# Altium schematic symbol library Interface_USB.SchLib: 96 symbols (part 2 of 2)
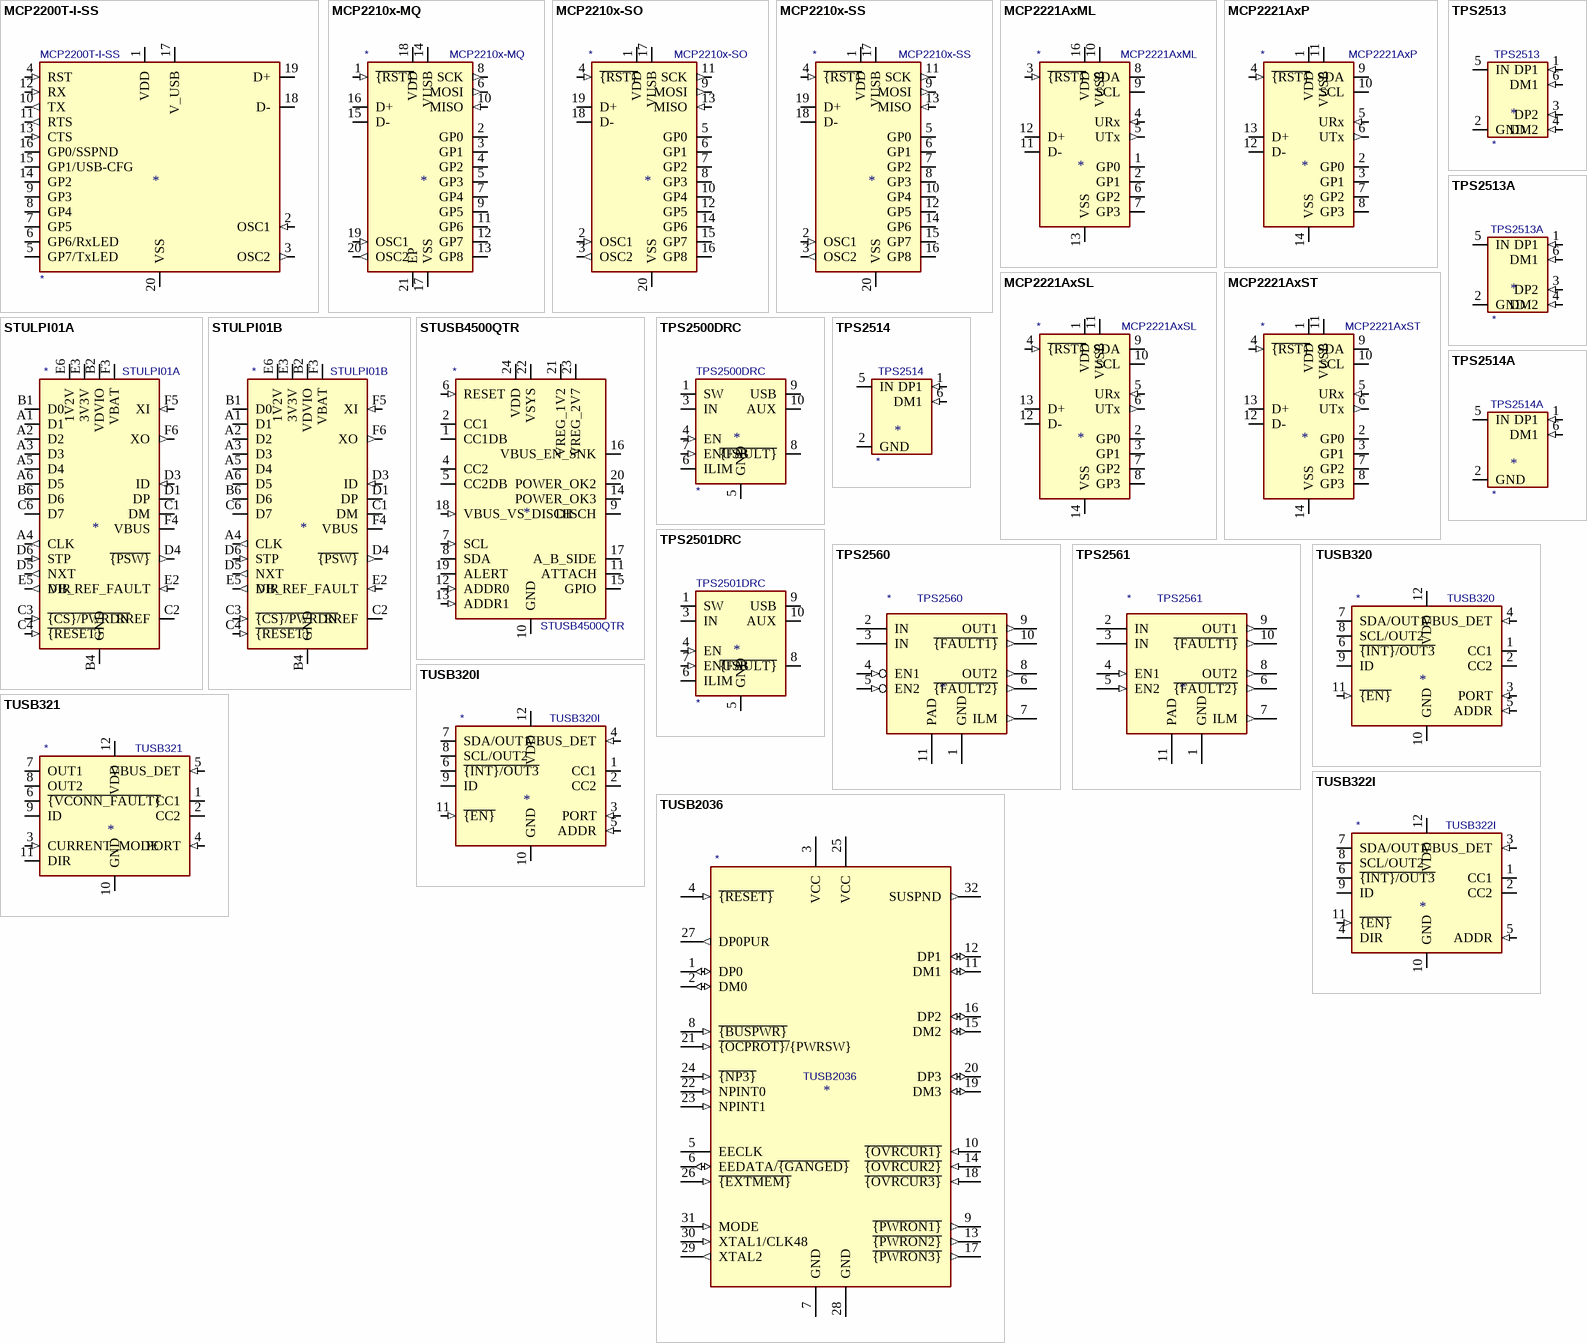
[diagram p5: symbols MCP2200T-I-SS to TUSB2036]

## MCP2221AxSL
designator *  value MCP2221AxSL
ki_keywords: USB I2C UART Converter Bridge; ki_description: USB to I2C/UART Protocol Converter with GPIO, SOIC-14; ki_fp_filters: SOIC*3.9x8.7mm*P1.27mm*; Footprint: Package_SO:SOIC-14_3.9x8.7mm_P1.27mm; Supplier: http://ww1.microchip.com/downloads/en/DeviceDoc/20005565B.pdf
footprint SOIC-14_3.9x8.7mm_P1.27mm
pins: 1 VDD (power), 2 GP0 (io), 3 GP1 (io), 4 ~{{RST}} (in), 5 URx (in), 6 UTx (out), 7 GP2 (io), 8 GP3 (io), 9 SDA (io), 10 SCL (io), 11 VUSB, 12 D- (io), 13 D+ (io), 14 VSS (power)

## MCP2221AxST
designator *  value MCP2221AxST
ki_keywords: USB I2C UART Converter Bridge; ki_description: USB to I2C/UART Protocol Converter with GPIO, TSSOP-14; ki_fp_filters: TSSOP*4.4x5mm*P0.65mm*; Footprint: Package_SO:TSSOP-14_4.4x5mm_P0.65mm; Supplier: http://ww1.microchip.com/downloads/en/DeviceDoc/20005565B.pdf
footprint TSSOP-14_4.4x5mm_P0.65mm
pins: 1 VDD (power), 2 GP0 (io), 3 GP1 (io), 4 ~{{RST}} (in), 5 URx (in), 6 UTx (out), 7 GP2 (io), 8 GP3 (io), 9 SDA (io), 10 SCL (io), 11 VUSB, 12 D- (io), 13 D+ (io), 14 VSS (power)

## STULPI01A
designator *  value STULPI01A
ki_keywords: USB OTG HS PHY ULPI Interface; ki_description: High-speed USB On-The-Go ULPI transceiver; ki_fp_filters: ST*uTFBGA*3.6x3.6mm*Layout6x6*P0.5mm*; Footprint: Package_BGA:ST_uTFBGA-36_3.6x3.6mm_Layout6x6_P0.5mm; Supplier: https://www.st.com/resource/en/datasheet/stulpi01a.pdf
footprint ST_uTFBGA-36_3.6x3.6mm_Layout6x6_P0.5mm
pins: A1 D1 (io), A2 D2 (io), A3 D3 (io), A4 CLK (out), A5 D4 (io), A6 D5 (io), B1 D0 (io), B2 VDVIO (power), B3 VDVIO hidden, B4 GND (power), B5 VDVIO hidden, B6 D6 (io), C1 DM (io), C2 RREF, C3 ~{{CS}/PWRDN} (in), C4 ~{{RESET}} (in), C5 GND hidden, C6 D7 (io), D1 DP (io), D2 GND hidden, D3 ID (in), D4 ~{{PSW}} (out), D5 NXT (out), D6 STP (in), E1 GND hidden, E2 VB_REF_FAULT (in), E3 3V3V, E4 GND hidden, E5 DIR (out), E6 1V2V, F1 NC (in) hidden, F2 NC (in) hidden, F3 VBAT (power), F4 VBUS (io), F5 XI (in), F6 XO (out)

## STULPI01B
designator *  value STULPI01B
ki_keywords: USB OTG HS PHY ULPI Interface; ki_description: High-speed USB On-The-Go ULPI transceiver; ki_fp_filters: ST*uTFBGA*3.6x3.6mm*Layout6x6*P0.5mm*; Footprint: Package_BGA:ST_uTFBGA-36_3.6x3.6mm_Layout6x6_P0.5mm; Supplier: https://www.st.com/resource/en/datasheet/stulpi01b.pdf
footprint ST_uTFBGA-36_3.6x3.6mm_Layout6x6_P0.5mm
pins: A1 D1 (io), A2 D2 (io), A3 D3 (io), A4 CLK (out), A5 D4 (io), A6 D5 (io), B1 D0 (io), B2 VDVIO (power), B3 VDVIO hidden, B4 GND (power), B5 VDVIO hidden, B6 D6 (io), C1 DM (io), C2 RREF, C3 ~{{CS}/PWRDN} (in), C4 ~{{RESET}} (in), C5 GND hidden, C6 D7 (io), D1 DP (io), D2 GND hidden, D3 ID (in), D4 ~{{PSW}} (out), D5 NXT (out), D6 STP (in), E1 GND hidden, E2 VB_REF_FAULT (in), E3 3V3V, E4 GND hidden, E5 DIR (out), E6 1V2V, F1 NC (in) hidden, F2 NC (in) hidden, F3 VBAT (power), F4 VBUS (io), F5 XI (in), F6 XO (out)

## STUSB4500QTR
designator *  value STUSB4500QTR
ki_keywords: USB PD Type C Sink; ki_description: Stand-alone USB PD controller (with sink Auto-run mode), QFN-24; ki_fp_filters: QFN*4x4mm*P0.5mm*; Footprint: Package_DFN_QFN:QFN-24-1EP_4x4mm_P0.5mm_EP2.7x2.7mm; Supplier: https://www.st.com/resource/en/datasheet/stusb4500.pdf
footprint QFN-24-1EP_4x4mm_P0.5mm_EP2.7x2.7mm
pins: 1 CC1DB (io), 2 CC1 (io), 3 NC (in) hidden, 4 CC2 (io), 5 CC2DB (io), 6 RESET (in), 7 SCL (in), 8 SDA (io), 9 DISCH (io), 10 GND (power), 11 ATTACH (oc), 12 ADDR0 (in), 13 ADDR1 (in), 14 POWER_OK3 (oc), 15 GPIO (oc), 16 VBUS_EN_SNK (oc), 17 A_B_SIDE (oc), 18 VBUS_VS_DISCH (in), 19 ALERT (oc), 20 POWER_OK2 (oc), 21 VREG_1V2 (power), 22 VSYS (power), 23 VREG_2V7 (power), 24 VDD (power), 25 GND hidden

## TPS2500DRC
designator *  value TPS2500DRC
ki_keywords: USB switch boost; ki_description: Integrated USB power Switch with Boost Converter, High-Efficiency Eco-mode Control Scheme, Texas S-PVSON-10; ki_fp_filters: Texas*S*PVSON*N10*; Footprint: Package_SON:Texas_S-PVSON-N10; Supplier: http://www.ti.com/lit/ds/symlink/tps2500.pdf
footprint Texas_S-PVSON-N10
pins: 1 SW (power), 2 GND hidden, 3 IN (power), 4 EN (in), 5 GND (power), 6 ILIM, 7 ENUSB (in), 8 ~{{FAULT}} (oc), 9 USB (power), 10 AUX (power), 11 GND hidden

## TPS2501DRC
designator *  value TPS2501DRC
ki_keywords: USB switch boost; ki_description: Integrated USB power Switch with Boost Converter, Constant Frequency, Texas S-PVSON-10; ki_fp_filters: Texas*S*PVSON*N10*; Footprint: Package_SON:Texas_S-PVSON-N10; Supplier: http://www.ti.com/lit/ds/symlink/tps2500.pdf
footprint Texas_S-PVSON-N10
pins: 1 SW (power), 2 GND hidden, 3 IN (power), 4 EN (in), 5 GND (power), 6 ILIM, 7 ENUSB (in), 8 ~{{FAULT}} (oc), 9 USB (power), 10 AUX (power), 11 GND hidden

## TPS2513
designator *  value TPS2513
ki_keywords: USB Charge; ki_description: USB Dedicated Charging Port Controller; ki_fp_filters: SOT?23*; Footprint: Package_TO_SOT_SMD:SOT-23-6; Supplier: http://www.ti.com/lit/ds/symlink/tps2513.pdf
footprint SOT-23-6
pins: 1 DP1 (in), 2 GND (power), 3 DP2 (in), 4 DM2 (in), 5 IN (power), 6 DM1 (in)

## TPS2513A
designator *  value TPS2513A
ki_keywords: USB Charge; ki_description: USB Dedicated Charging Port Controller; ki_fp_filters: SOT?23*; Footprint: Package_TO_SOT_SMD:SOT-23-6; Supplier: http://www.ti.com/lit/ds/symlink/tps2513.pdf
footprint SOT-23-6
pins: 1 DP1 (in), 2 GND (power), 3 DP2 (in), 4 DM2 (in), 5 IN (power), 6 DM1 (in)

## TPS2514
designator *  value TPS2514
ki_keywords: USB Charge; ki_description: USB Dedicated Charging Port Controller; ki_fp_filters: SOT?23*; Footprint: Package_TO_SOT_SMD:SOT-23-6; Supplier: http://www.ti.com/lit/ds/symlink/tps2513.pdf
footprint SOT-23-6
pins: 1 DP1 (in), 2 GND (power), 3 NC (in) hidden, 4 NC (in) hidden, 5 IN (power), 6 DM1 (in)

## TPS2514A
designator *  value TPS2514A
ki_keywords: USB Charge; ki_description: USB Dedicated Charging Port Controller; ki_fp_filters: SOT?23*; Footprint: Package_TO_SOT_SMD:SOT-23-6; Supplier: http://www.ti.com/lit/ds/symlink/tps2513.pdf
footprint SOT-23-6
pins: 1 DP1 (in), 2 GND (power), 3 NC (in) hidden, 4 NC (in) hidden, 5 IN (power), 6 DM1 (in)

## TPS2560
designator *  value TPS2560
ki_keywords: power switche current limited usb port; ki_description: Dual channel precision adjustable current-limited power switches; ki_fp_filters: VSON*3x3mm*P0.5mm*; Footprint: Package_SON:VSON-10-1EP_3x3mm_P0.5mm_EP1.65x2.4mm_ThermalVias; Supplier: http://www.ti.com/lit/ds/symlink/tps2560.pdf
footprint VSON-10-1EP_3x3mm_P0.5mm_EP1.65x2.4mm_ThermalVias
pins: 1 GND (power), 2 IN (power), 3 IN (power), 4 EN1 (in), 5 EN2 (in), 6 ~{{FAULT2}} (out), 7 ILM (out), 8 OUT2 (out), 9 OUT1 (out), 10 ~{{FAULT1}} (out), 11 PAD (power)

## TPS2561
designator *  value TPS2561
ki_keywords: power switche current limited usb port; ki_description: Dual channel precision adjustable current-limited power switches; ki_fp_filters: VSON*3x3mm*P0.5mm*; Footprint: Package_SON:VSON-10-1EP_3x3mm_P0.5mm_EP1.65x2.4mm_ThermalVias; Supplier: http://www.ti.com/lit/ds/symlink/tps2561.pdf
footprint VSON-10-1EP_3x3mm_P0.5mm_EP1.65x2.4mm_ThermalVias
pins: 1 GND (power), 2 IN (power), 3 IN (power), 4 EN1 (in), 5 EN2 (in), 6 ~{{FAULT2}} (out), 7 ILM (out), 8 OUT2 (out), 9 OUT1 (out), 10 ~{{FAULT1}} (out), 11 PAD (power)

## TUSB320
designator *  value TUSB320
ki_keywords: USB PD CC; ki_description: USB Type-C Configuration Channel Logic and Port Control, X2QFN-12; ki_fp_filters: Texas?X2QFN*1.6x1.6mm*P0.4mm*; Footprint: Package_DFN_QFN:Texas_X2QFN-12_1.6x1.6mm_P0.4mm; Supplier: http://www.ti.com/lit/ds/symlink/tusb320.pdf
footprint Texas_X2QFN-12_1.6x1.6mm_P0.4mm
pins: 1 CC1 (io), 2 CC2 (io), 3 PORT (in), 4 VBUS_DET (in), 5 ADDR (in), 6 ~{{INT}/OUT3} (oc), 7 SDA/OUT1 (io), 8 SCL/OUT2 (io), 9 ID (oc), 10 GND (power), 11 ~{{EN}} (in), 12 VDD (power)

## TUSB320I
designator *  value TUSB320I
ki_keywords: USB PD CC; ki_description: USB Type-C Configuration Channel Logic and Port Control, industrial temperature range, X2QFN-12; ki_fp_filters: Texas?X2QFN*1.6x1.6mm*P0.4mm*; Footprint: Package_DFN_QFN:Texas_X2QFN-12_1.6x1.6mm_P0.4mm; Supplier: http://www.ti.com/lit/ds/symlink/tusb320.pdf
footprint Texas_X2QFN-12_1.6x1.6mm_P0.4mm
pins: 1 CC1 (io), 2 CC2 (io), 3 PORT (in), 4 VBUS_DET (in), 5 ADDR (in), 6 ~{{INT}/OUT3} (oc), 7 SDA/OUT1 (io), 8 SCL/OUT2 (io), 9 ID (oc), 10 GND (power), 11 ~{{EN}} (in), 12 VDD (power)

## TUSB321
designator *  value TUSB321
ki_keywords: USB CC PD VCONN; ki_description: USB Type-C Configuration Channel Logic and Port Control with VCONN, X2QFN-12; ki_fp_filters: Texas?X2QFN*1.6x1.6mm*P0.4mm*; Footprint: Package_DFN_QFN:Texas_X2QFN-12_1.6x1.6mm_P0.4mm; Supplier: http://www.ti.com/lit/ds/symlink/tusb321.pdf
footprint Texas_X2QFN-12_1.6x1.6mm_P0.4mm
pins: 1 CC1 (io), 2 CC2 (io), 3 CURRENT_MODE (in), 4 PORT (in), 5 VBUS_DET (in), 6 ~{{VCONN_FAULT}} (oc), 7 OUT1 (oc), 8 OUT2 (oc), 9 ID (oc), 10 GND (power), 11 DIR (oc), 12 VDD (power)

## TUSB322I
designator *  value TUSB322I
ki_keywords: USB VCONN PD CC; ki_description: USB Type-C Configuration Channel Logic and Port Control with VCONN, X2QFN-12; ki_fp_filters: Texas?X2QFN*1.6x1.6mm*P0.4mm*; Footprint: Package_DFN_QFN:Texas_X2QFN-12_1.6x1.6mm_P0.4mm; Supplier: www.ti.com/lit/ds/symlink/tusb322i.pdf
footprint Texas_X2QFN-12_1.6x1.6mm_P0.4mm
pins: 1 CC1 (io), 2 CC2 (io), 3 VBUS_DET (in), 4 DIR (oc), 5 ADDR (in), 6 ~{{INT}/OUT3} (oc), 7 SDA/OUT1 (io), 8 SCL/OUT2 (io), 9 ID (oc), 10 GND (power), 11 ~{{EN}} (in), 12 VDD (power)

## TUSB2036
designator *  value TUSB2036
ki_keywords: 2-Port, 3-Port, 3.3V, EEPROM, Full Speed, Hub, Texas Instruments, USB1.1; ki_description: 2- or 3-Port USB1.1 HUB with optional serial EEPROM; ki_fp_filters: LQFP*7x7mm*P0.8mm*; Footprint: Package_QFP:LQFP-32_7x7mm_P0.8mm; Supplier: http://www.ti.com/lit/ds/symlink/tusb2036.pdf
footprint LQFP-32_7x7mm_P0.8mm
pins: 1 DP0 (io), 2 DM0 (io), 3 VCC (power), 4 ~{{RESET}} (in), 5 EECLK (hiz), 6 EEDATA/~{{GANGED}} (io), 7 GND (power), 8 ~{{BUSPWR}} (in), 9 ~{{PWRON1}} (out), 10 ~{{OVRCUR1}} (in), 11 DM1 (io), 12 DP1 (io), 13 ~{{PWRON2}} (out), 14 ~{{OVRCUR2}} (in), 15 DM2 (io), 16 DP2 (io), 17 ~{{PWRON3}} (out), 18 ~{{OVRCUR3}} (in), 19 DM3 (io), 20 DP3 (io), 21 ~{{OCPROT}/}{PWRSW} (in), 22 NPINT0 (in), 23 NPINT1 (in), 24 ~{{NP3}} (in), 25 VCC (power), 26 ~{{EXTMEM}} (in), 27 DP0PUR (out), 28 GND (power), 29 XTAL2 (out), 30 XTAL1/CLK48 (in), 31 MODE (in), 32 SUSPND (out)

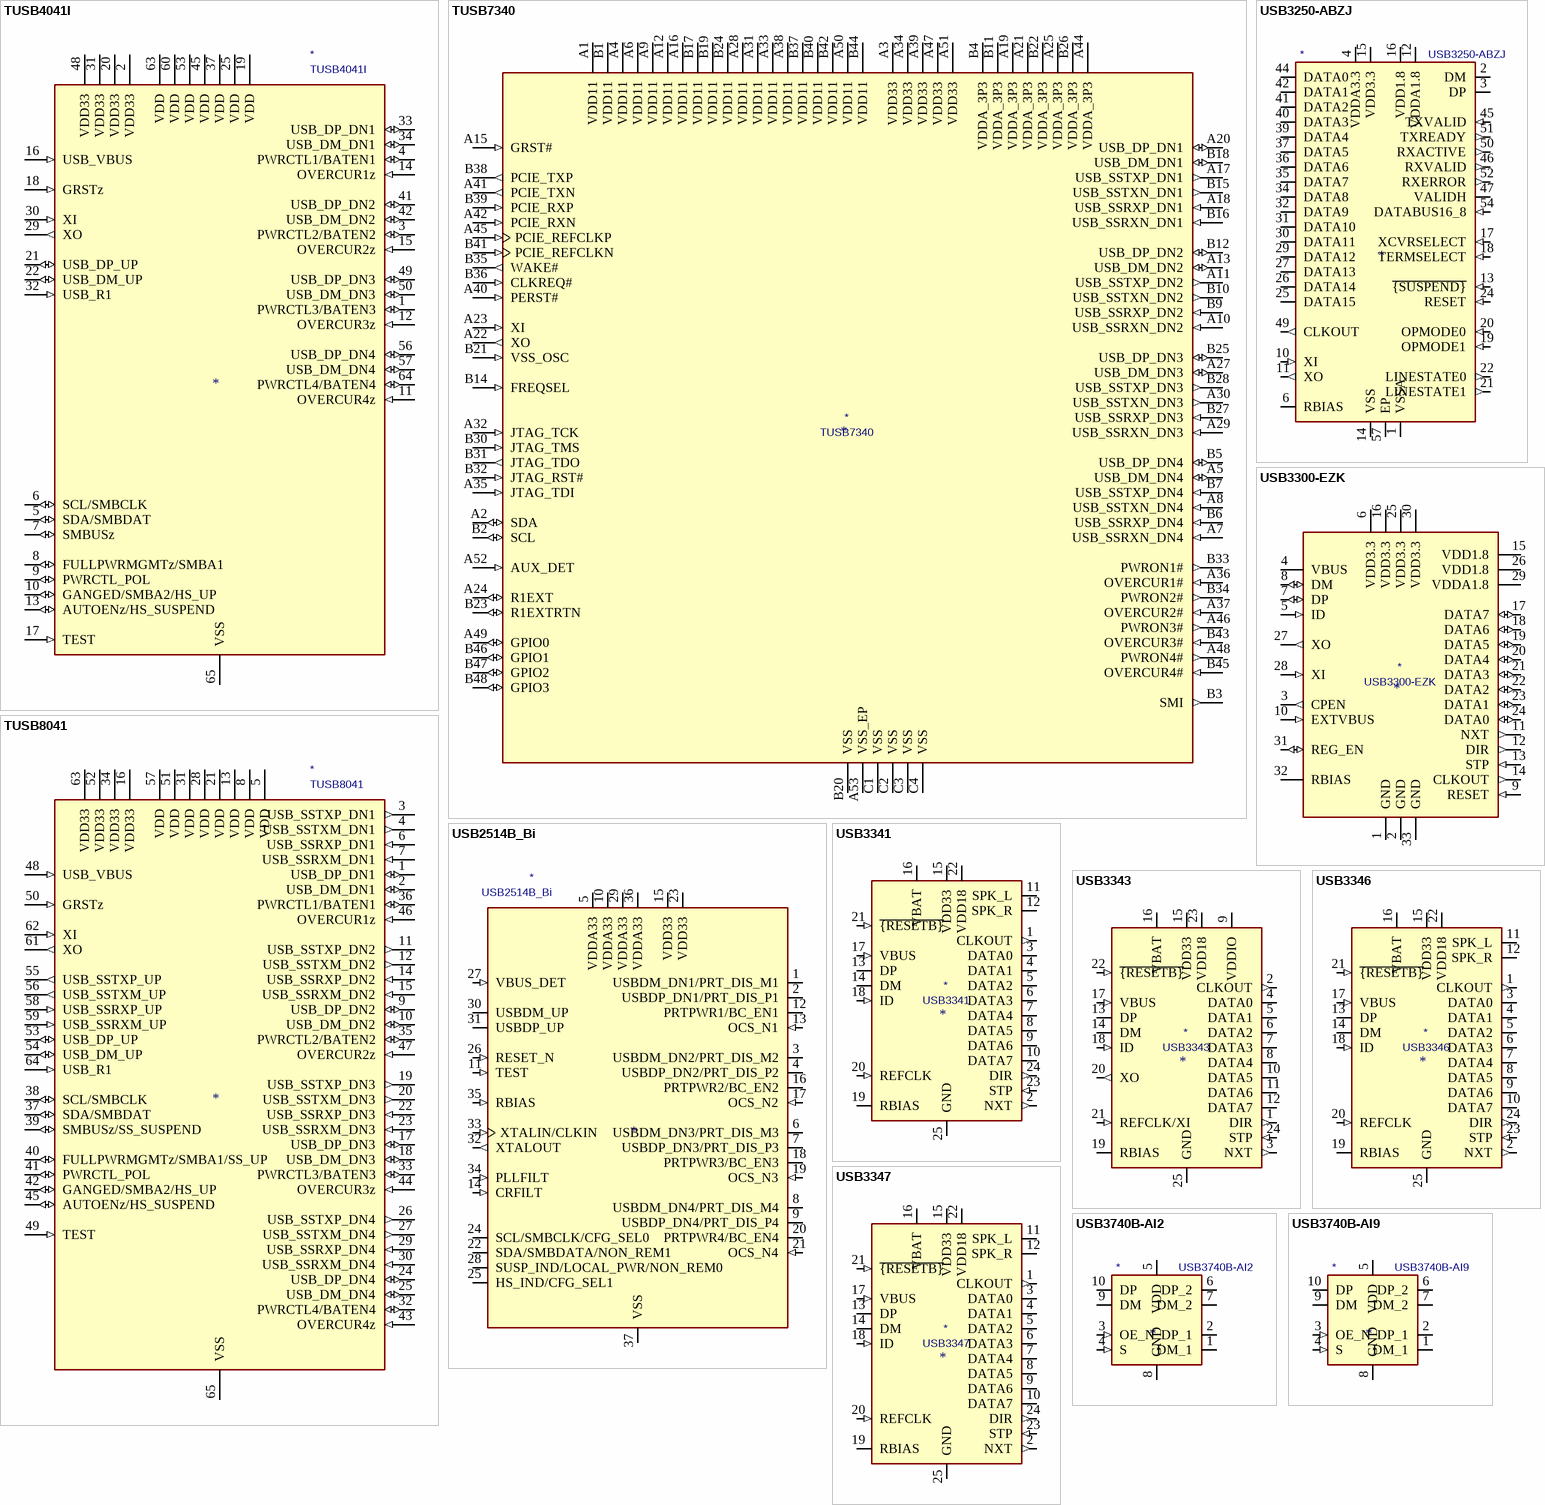
[diagram p4: symbols TUSB4041I to USB3740B-AI9]

## TUSB4041I
designator *  value TUSB4041I
ki_keywords: USB2.0 hub; ki_description: four port USB 2.0 Hub; ki_fp_filters: HTQFP*10x10mm*P0.5mm*; Footprint: Package_QFP:HTQFP-64-1EP_10x10mm_P0.5mm_EP8x8mm_Mask4.4x4.4mm_ThermalVias; Supplier: http://www.ti.com/lit/ds/symlink/tusb4041i.pdf
footprint HTQFP-64-1EP_10x10mm_P0.5mm_EP8x8mm_Mask4.4x4.4mm_ThermalVias
pins: 1 PWRCTL3/BATEN3 (io), 2 VDD33 (power), 3 PWRCTL2/BATEN2 (io), 4 PWRCTL1/BATEN1 (io), 5 SDA/SMBDAT (io), 6 SCL/SMBCLK (io), 7 SMBUSz (io), 8 FULLPWRMGMTz/SMBA1 (io), 9 PWRCTL_POL (io), 10 GANGED/SMBA2/HS_UP (io), 11 OVERCUR4z (in), 12 OVERCUR3z (in), 13 AUTOENz/HS_SUSPEND (io), 14 OVERCUR1z (in), 15 OVERCUR2z (in), 16 USB_VBUS (in), 17 TEST (in), 18 GRSTz (in), 19 VDD (power), 20 VDD33 (power), 21 USB_DP_UP (io), 22 USB_DM_UP (io), 23 RSVD (io) hidden, 24 RSVD (io) hidden, 25 VDD (power), 26 RSVD (io) hidden, 27 RSVD (io) hidden, 28 NC (in) hidden, 29 XO (out), 30 XI (in), 31 VDD33 (power), 32 USB_R1 (in), 33 USB_DP_DN1 (io), 34 USB_DM_DN1 (io), 35 RSVD (io) hidden, 36 RSVD (io) hidden, 37 VDD (power), 38 RSVD (io) hidden, 39 RSVD (io) hidden, 40 NC (in) hidden, 41 USB_DP_DN2 (io), 42 USB_DM_DN2 (io), 43 RSVD (io) hidden, 44 RSVD (io) hidden, 45 VDD (power), 46 RSVD (io) hidden, 47 RSVD (io) hidden, 48 VDD33 (power), 49 USB_DP_DN3 (io), 50 USB_DM_DN3 (io), 51 RSVD (io) hidden, 52 RSVD (io) hidden, 53 VDD (power), 54 RSVD (io) hidden, 55 RSVD (io) hidden, 56 USB_DP_DN4 (io), 57 USB_DM_DN4 (io), 58 RSVD (io) hidden, 59 RSVD (io) hidden, 60 VDD (power), 61 RSVD (io) hidden, 62 RSVD (io) hidden, 63 VDD (power), 64 PWRCTL4/BATEN4 (io), 65 VSS (power)

## TUSB7340
designator *  value TUSB7340
ki_keywords: USB HUB PCIE; ki_description: USB 3.0 xHCI Host Controller; ki_fp_filters: Texas*S?PWQFN?N100*; Footprint: Package_DFN_QFN:Texas_S-PWQFN-N100_EP5.5x5.5mm_ThermalVias; Supplier: http://www.ti.com/general/docs/lit/getliterature.tsp?genericPartNumber=tusb7320&fileType=pdf
footprint Texas_S-PWQFN-N100_EP5.5x5.5mm_ThermalVias
pins: A1 VDD11 (power), A2 SDA (io), A3 VDD33 (power), A4 VDD11 (power), A5 USB_DM_DN4 (io), A6 VDD11 (power), A7 USB_SSRXN_DN4 (in), A8 USB_SSTXN_DN4 (in), A9 VDD11 (power), A10 USB_SSRXN_DN2 (in), A11 USB_SSTXP_DN2 (out), A12 VDD11 (power), A13 USB_DM_DN2 (io), A14 NC (in) hidden, A15 GRST# (in), A16 VDD11 (power), A17 USB_SSTXP_DN1 (out), A18 USB_SSRXP_DN1 (in), A19 VDDA_3P3 (power), A20 USB_DP_DN1 (io), A21 VDDA_3P3 (power), A22 XO (out), A23 XI (in), A24 R1EXT (io), A25 VDDA_3P3 (power), A26 NC (in) hidden, A27 USB_DM_DN3 (io), A28 VDD11 (power), A29 USB_SSRXN_DN3 (in), A30 USB_SSTXN_DN3 (out), A31 VDD11 (power), A32 JTAG_TCK (in), A33 VDD11 (power), A34 VDD33 (power), A35 JTAG_TDI (in), A36 OVERCUR1# (in), A37 OVERCUR2# (in), A38 VDD11 (power), A39 VDD33 (power), A40 PERST# (in), A41 PCIE_TXN (out), A42 PCIE_RXN (in), A43 NC (in) hidden, A44 VDDA_3P3 (power), A45 PCIE_REFCLKP (in), A46 PWRON3# (out), A47 VDD33 (power), A48 PWRON4# (out), A49 GPIO0 (io), A50 VDD11 (power), A51 VDD33 (power), A52 AUX_DET (in), A53 VSS_EP (power), B1 VDD11 (power), B2 SCL (io), B3 SMI (out), B4 VDDA_3P3 (power), B5 USB_DP_DN4 (io), B6 USB_SSRXP_DN4 (in), B7 USB_SSTXP_DN4 (in), B8 NC (in) hidden, B9 USB_SSRXP_DN2 (in), B10 USB_SSTXN_DN2 (out), B11 VDDA_3P3 (power), B12 USB_DP_DN2 (io), B13 NC (in) hidden, B14 FREQSEL (in), B15 USB_SSTXN_DN1 (out), B16 USB_SSRXN_DN1 (in), B17 VDD11 (power), B18 USB_DM_DN1 (io), B19 VDD11 (power), B20 VSS (power), B21 VSS_OSC (in), B22 VDDA_3P3 (power), B23 R1EXTRTN (io), B24 VDD11 (power), B25 USB_DP_DN3 (io), B26 VDDA_3P3 (power), B27 USB_SSRXP_DN3 (in), B28 USB_SSTXP_DN3 (out), B29 NC (in) hidden, B30 JTAG_TMS (in), B31 JTAG_TDO (out), B32 JTAG_RST# (in), B33 PWRON1# (out), B34 PWRON2# (out), B35 WAKE# (out), B36 CLKREQ# (in), B37 VDD11 (power), B38 PCIE_TXP (out), B39 PCIE_RXP (in), B40 VDD11 (power), B41 PCIE_REFCLKN (in), B42 VDD11 (power), B43 OVERCUR3# (in), B44 VDD11 (power), B45 OVERCUR4# (in), B46 GPIO1 (io), B47 GPIO2 (io), B48 GPIO3 (io), C1 VSS (power), C2 VSS (power), C3 VSS (power), C4 VSS (power)

## TUSB8041
designator *  value TUSB8041
ki_keywords: USB3.0 hub; ki_description: four port USB 3.0 Hub; ki_fp_filters: QFN*9x9mm*P0.5mm*; Footprint: Package_DFN_QFN:QFN-64-1EP_9x9mm_P0.5mm_EP6x6mm_ThermalVias; Supplier: http://www.ti.com/lit/ds/symlink/tusb8041.pdf
footprint QFN-64-1EP_9x9mm_P0.5mm_EP6x6mm_ThermalVias
pins: 1 USB_DP_DN1 (io), 2 USB_DM_DN1 (io), 3 USB_SSTXP_DN1 (out), 4 USB_SSTXM_DN1 (out), 5 VDD (power), 6 USB_SSRXP_DN1 (in), 7 USB_SSRXM_DN1 (in), 8 VDD (power), 9 USB_DP_DN2 (io), 10 USB_DM_DN2 (io), 11 USB_SSTXP_DN2 (out), 12 USB_SSTXM_DN2 (out), 13 VDD (power), 14 USB_SSRXP_DN2 (in), 15 USB_SSRXM_DN2 (in), 16 VDD33 (power), 17 USB_DP_DN3 (io), 18 USB_DM_DN3 (io), 19 USB_SSTXP_DN3 (out), 20 USB_SSTXM_DN3 (out), 21 VDD (power), 22 USB_SSRXP_DN3 (in), 23 USB_SSRXM_DN3 (in), 24 USB_DP_DN4 (io), 25 USB_DM_DN4 (io), 26 USB_SSTXP_DN4 (out), 27 USB_SSTXM_DN4 (out), 28 VDD (power), 29 USB_SSRXP_DN4 (in), 30 USB_SSRXM_DN4 (in), 31 VDD (power), 32 PWRCTL4/BATEN4 (io), 33 PWRCTL3/BATEN3 (io), 34 VDD33 (power), 35 PWRCTL2/BATEN2 (io), 36 PWRCTL1/BATEN1 (io), 37 SDA/SMBDAT (io), 38 SCL/SMBCLK (io), 39 SMBUSz/SS_SUSPEND (io), 40 FULLPWRMGMTz/SMBA1/SS_UP (io), 41 PWRCTL_POL (io), 42 GANGED/SMBA2/HS_UP (io), 43 OVERCUR4z (in), 44 OVERCUR3z (in), 45 AUTOENz/HS_SUSPEND (io), 46 OVERCUR1z (in), 47 OVERCUR2z (in), 48 USB_VBUS (in), 49 TEST (in), 50 GRSTz (in), 51 VDD (power), 52 VDD33 (power), 53 USB_DP_UP (io), 54 USB_DM_UP (io), 55 USB_SSTXP_UP (out), 56 USB_SSTXM_UP (out), 57 VDD (power), 58 USB_SSRXP_UP (in), 59 USB_SSRXM_UP (in), 60 NC (in) hidden, 61 XO (out), 62 XI (in), 63 VDD33 (power), 64 USB_R1 (in), 65 VSS (power)

## USB2514B_Bi
designator *  value USB2514B_Bi
ki_keywords: USB2.0 Hi-Speed-USB-Hub Hub-Controller; ki_description: USB 2.0 Hi-Speed Hub Controller; ki_fp_filters: QFN*6x6mm*P0.5mm*; Footprint: Package_DFN_QFN:QFN-36-1EP_6x6mm_P0.5mm_EP3.7x3.7mm; Supplier: http://ww1.microchip.com/downloads/en/DeviceDoc/00001692C.pdf
footprint QFN-36-1EP_6x6mm_P0.5mm_EP3.7x3.7mm
pins: 1 USBDM_DN1/PRT_DIS_M1 (io), 2 USBDP_DN1/PRT_DIS_P1 (io), 3 USBDM_DN2/PRT_DIS_M2 (io), 4 USBDP_DN2/PRT_DIS_P2 (io), 5 VDDA33 (power), 6 USBDM_DN3/PRT_DIS_M3 (io), 7 USBDP_DN3/PRT_DIS_P3 (io), 8 USBDM_DN4/PRT_DIS_M4 (io), 9 USBDP_DN4/PRT_DIS_P4 (io), 10 VDDA33 (power), 11 TEST (in), 12 PRTPWR1/BC_EN1 (io), 13 OCS_N1 (in), 14 CRFILT (in), 15 VDD33 (power), 16 PRTPWR2/BC_EN2 (io), 17 OCS_N2 (in), 18 PRTPWR3/BC_EN3 (io), 19 OCS_N3 (in), 20 PRTPWR4/BC_EN4 (io), 21 OCS_N4 (in), 22 SDA/SMBDATA/NON_REM1 (io), 23 VDD33 (power), 24 SCL/SMBCLK/CFG_SEL0 (io), 25 HS_IND/CFG_SEL1 (io), 26 RESET_N (in), 27 VBUS_DET (in), 28 SUSP_IND/LOCAL_PWR/NON_REM0 (io), 29 VDDA33 (power), 30 USBDM_UP (io), 31 USBDP_UP (io), 32 XTALOUT (out), 33 XTALIN/CLKIN (in), 34 PLLFILT (in), 35 RBIAS (in), 36 VDDA33 (power), 37 VSS (power)

## USB3250-ABZJ
designator *  value USB3250-ABZJ
ki_keywords: HS FS Device USB PHY UTMI; ki_description: Hi-Speed USB Device Transceiver with UTMI Interface, QFN-56; ki_fp_filters: QFN*1EP*8x8mm*P0.5mm*; Footprint: Package_DFN_QFN:QFN-56-1EP_8x8mm_P0.5mm_EP4.3x4.3mm; Supplier: http://ww1.microchip.com/downloads/en/DeviceDoc/00002142A.pdf
footprint QFN-56-1EP_8x8mm_P0.5mm_EP4.3x4.3mm
pins: 1 VSSA (power), 2 DM (io), 3 DP (io), 4 VDDA3.3 (power), 5 VSSA hidden, 6 RBIAS, 7 VDDA3.3 hidden, 8 VSSA hidden, 9 VSSA hidden, 10 XI (in), 11 XO (out), 12 VDDA1.8 (power), 13 ~{{SUSPEND}} (in), 14 VSS (power), 15 VDD3.3 (power), 16 VDD1.8 (power), 17 XCVRSELECT (in), 18 TERMSELECT (in), 19 OPMODE1 (in), 20 OPMODE0 (in), 21 LINESTATE1 (out), 22 LINESTATE0 (out), 23 VDD1.8 hidden, 24 RESET (in), 25 DATA15 (io), 26 DATA14 (io), 27 DATA13 (io), 28 VDD3.3 hidden, 29 DATA12 (io), 30 DATA11 (io), 31 DATA10 (io), 32 DATA9 (io), 33 VSS hidden, 34 DATA8 (io), 35 DATA7 (io), 36 DATA6 (io), 37 DATA5 (io), 38 VDD1.8 hidden, 39 DATA4 (io), 40 DATA3 (io), 41 DATA2 (io), 42 DATA1 (io), 43 VDD3.3 hidden, 44 DATA0 (io), 45 TXVALID (in), 46 RXVALID (out), 47 VALIDH (io), 48 VSS hidden, 49 CLKOUT (out), 50 RXACTIVE (out), 51 TXREADY (out), 52 RXERROR (out), 53 VDD1.8 hidden, 54 DATABUS16_8 (in), 55 VSS hidden, 56 VSS hidden, 57 EP (power)

## USB3300-EZK
designator *  value USB3300-EZK
ki_keywords: USB OTG Hi-Speed PHY ULPI Interface; ki_description: Hi-Speed USB Host, Device or OTG PHY with ULPI Interface; ki_fp_filters: *QFN*32*1EP*5x5mm*P0.5mm*; Footprint: Package_DFN_QFN:QFN-32-1EP_5x5mm_P0.5mm_EP3.45x3.45mm; Supplier: http://ww1.microchip.com/downloads/en/DeviceDoc/00001783C.pdf
footprint QFN-32-1EP_5x5mm_P0.5mm_EP3.45x3.45mm
pins: 1 GND (power), 2 GND (power), 3 CPEN (out), 4 VBUS (power), 5 ID (in), 6 VDD3.3 (power), 7 DP (io), 8 DM (io), 9 RESET (in), 10 EXTVBUS (in), 11 NXT (out), 12 DIR (out), 13 STP (in), 14 CLKOUT (out), 15 VDD1.8 (power), 16 VDD3.3 (power), 17 DATA7 (io), 18 DATA6 (io), 19 DATA5 (io), 20 DATA4 (io), 21 DATA3 (io), 22 DATA2 (io), 23 DATA1 (io), 24 DATA0 (io), 25 VDD3.3 (power), 26 VDD1.8 (power), 27 XO (out), 28 XI (in), 29 VDDA1.8 (power), 30 VDD3.3 (power), 31 REG_EN (io), 32 RBIAS, 33 GND (power)

## USB3341
designator *  value USB3341
ki_keywords: USB ULPI Transceiver; ki_description: Hi-Speed USB ULPI Transceiver, QFN-24; ki_fp_filters: QFN*1EP*4x4mm*P0.5mm*; Footprint: Package_DFN_QFN:QFN-24-1EP_4x4mm_P0.5mm_EP2.6x2.6mm; Supplier: http://ww1.microchip.com/downloads/en/DeviceDoc/334x.pdf
footprint QFN-24-1EP_4x4mm_P0.5mm_EP2.6x2.6mm
pins: 1 CLKOUT (out), 2 NXT (out), 3 DATA0 (io), 4 DATA1 (io), 5 DATA2 (io), 6 DATA3 (io), 7 DATA4 (io), 8 DATA5 (io), 9 DATA6 (io), 10 DATA7 (io), 11 SPK_L (io), 12 SPK_R (io), 13 DP (io), 14 DM (io), 15 VDD33 (power), 16 VBAT (power), 17 VBUS (in), 18 ID (in), 19 RBIAS, 20 REFCLK (in), 21 ~{{RESETB}} (in), 22 VDD18 (power), 23 STP (in), 24 DIR (out), 25 GND (power)

## USB3343
designator *  value USB3343
ki_keywords: USB ULPI Transceiver; ki_description: Hi-Speed USB ULPI Transceiver, QFN-24; ki_fp_filters: QFN*1EP*4x4mm*P0.5mm*; Footprint: Package_DFN_QFN:QFN-24-1EP_4x4mm_P0.5mm_EP2.6x2.6mm; Supplier: http://ww1.microchip.com/downloads/en/DeviceDoc/334x.pdf
footprint QFN-24-1EP_4x4mm_P0.5mm_EP2.6x2.6mm
pins: 1 DIR (out), 2 CLKOUT (out), 3 NXT (out), 4 DATA0 (io), 5 DATA1 (io), 6 DATA2 (io), 7 DATA3 (io), 8 DATA4 (io), 9 VDDIO (power), 10 DATA5 (io), 11 DATA6 (io), 12 DATA7 (io), 13 DP (io), 14 DM (io), 15 VDD33 (power), 16 VBAT (power), 17 VBUS (in), 18 ID (in), 19 RBIAS, 20 XO (out), 21 REFCLK/XI (in), 22 ~{{RESETB}} (in), 23 VDD18 (power), 24 STP (in), 25 GND (power)

## USB3346
designator *  value USB3346
ki_keywords: USB ULPI Transceiver; ki_description: Hi-Speed USB ULPI Transceiver, QFN-24; ki_fp_filters: QFN*1EP*4x4mm*P0.5mm*; Footprint: Package_DFN_QFN:QFN-24-1EP_4x4mm_P0.5mm_EP2.6x2.6mm; Supplier: http://ww1.microchip.com/downloads/en/DeviceDoc/334x.pdf
footprint QFN-24-1EP_4x4mm_P0.5mm_EP2.6x2.6mm
pins: 1 CLKOUT (out), 2 NXT (out), 3 DATA0 (io), 4 DATA1 (io), 5 DATA2 (io), 6 DATA3 (io), 7 DATA4 (io), 8 DATA5 (io), 9 DATA6 (io), 10 DATA7 (io), 11 SPK_L (io), 12 SPK_R (io), 13 DP (io), 14 DM (io), 15 VDD33 (power), 16 VBAT (power), 17 VBUS (in), 18 ID (in), 19 RBIAS, 20 REFCLK (in), 21 ~{{RESETB}} (in), 22 VDD18 (power), 23 STP (in), 24 DIR (out), 25 GND (power)

## USB3347
designator *  value USB3347
ki_keywords: USB ULPI Transceiver; ki_description: Hi-Speed USB ULPI Transceiver, QFN-24; ki_fp_filters: QFN*1EP*4x4mm*P0.5mm*; Footprint: Package_DFN_QFN:QFN-24-1EP_4x4mm_P0.5mm_EP2.6x2.6mm; Supplier: http://ww1.microchip.com/downloads/en/DeviceDoc/334x.pdf
footprint QFN-24-1EP_4x4mm_P0.5mm_EP2.6x2.6mm
pins: 1 CLKOUT (out), 2 NXT (out), 3 DATA0 (io), 4 DATA1 (io), 5 DATA2 (io), 6 DATA3 (io), 7 DATA4 (io), 8 DATA5 (io), 9 DATA6 (io), 10 DATA7 (io), 11 SPK_L (io), 12 SPK_R (io), 13 DP (io), 14 DM (io), 15 VDD33 (power), 16 VBAT (power), 17 VBUS (in), 18 ID (in), 19 RBIAS, 20 REFCLK (in), 21 ~{{RESETB}} (in), 22 VDD18 (power), 23 STP (in), 24 DIR (out), 25 GND (power)

## USB3740B-AI2
designator *  value USB3740B-AI2
ki_keywords: USB 2.0 High Speed Switch; ki_description: USB 2.0 Switch with ESD Protection, UQFN-10 Pitch 0.4 mm; ki_fp_filters: UQFN*1.3x1.8mm?P0.4mm* UQFN*1.6x2.1mm?P0.5mm*; Supplier: http://ww1.microchip.com/downloads/en/DeviceDoc/00001725D.pdf
pins: 1 DM_1 (io), 2 DP_1 (io), 3 OE_N (in), 4 S (in), 5 VDD (power), 6 DP_2 (io), 7 DM_2 (io), 8 GND (power), 9 DM (io), 10 DP (io)

## USB3740B-AI9
designator *  value USB3740B-AI9
ki_keywords: USB 2.0 High Speed Switch; ki_description: USB 2.0 Switch with ESD Protection, UQFN-10 Pitch 0.5mm; ki_fp_filters: UQFN*1.3x1.8mm?P0.4mm* UQFN*1.6x2.1mm?P0.5mm*; Supplier: http://ww1.microchip.com/downloads/en/DeviceDoc/00001725D.pdf
pins: 1 DM_1 (io), 2 DP_1 (io), 3 OE_N (in), 4 S (in), 5 VDD (power), 6 DP_2 (io), 7 DM_2 (io), 8 GND (power), 9 DM (io), 10 DP (io)